# EAGLE library part CY62146G (library memory-cypress-jlb)
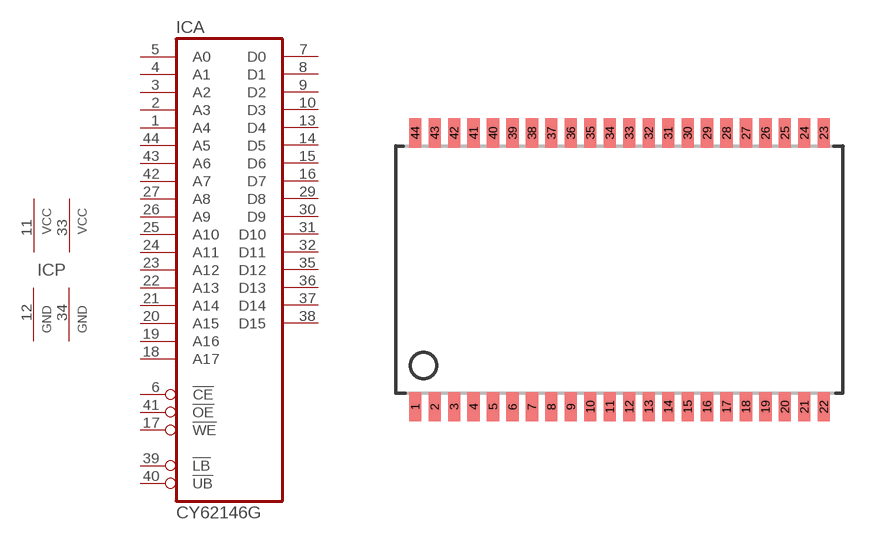
[diagram p2: symbol with the pads of TSOP44-II; footprint TSOP44-II]

Designator prefix IC; gates A=256KBX16 P=PWR2GND2

## CY62146GSL  [TSOP44-II]
1  A:A4  in
2  A:A3  in
3  A:A2  in
4  A:A1  in
5  A:A0  in
6  A:!CE  in
7  A:D0
8  A:D1
9  A:D2
10  A:D3
11  P:VCC  pwr
12  P:GND  pwr
13  A:D4
14  A:D5
15  A:D6
16  A:D7
17  A:!WE  in
18  A:A17  in
19  A:A16  in
20  A:A15  in
21  A:A14  in
22  A:A13  in
23  A:A12  in
24  A:A11  in
25  A:A10  in
26  A:A9  in
27  A:A8  in
29  A:D8
30  A:D9
31  A:D10
32  A:D11
33  P:VCC  pwr
34  P:GND  pwr
35  A:D12
36  A:D13
37  A:D14
38  A:D15
39  A:!LB  in
40  A:!UB  in
41  A:!OE  in
42  A:A7  in
43  A:A6  in
44  A:A5  in

## Footprint TSOP44-II (pad centres in mm)
smd 0.5 x 1.2: 1 -8.4,-5.627; 2 -7.6,-5.627; 3 -6.8,-5.627; 4 -6,-5.627; 5 -5.2,-5.627; 6 -4.4,-5.627; 7 -3.6,-5.627; 8 -2.8,-5.627; 9 -2,-5.627; 10 -1.2,-5.627; 11 -0.4,-5.627; 12 0.4,-5.627; 13 1.2,-5.627; 14 2,-5.627; 15 2.8,-5.627; 16 3.6,-5.627; 17 4.4,-5.627; 18 5.2,-5.627; 19 6,-5.627; 20 6.8,-5.627; 21 7.6,-5.627; 22 8.4,-5.627; 23 8.4,5.627; 24 7.6,5.627; 25 6.8,5.627; 26 6,5.627; 27 5.2,5.627; 28 4.4,5.627; 29 3.6,5.627; 30 2.8,5.627; 31 2,5.627; 32 1.2,5.627; 33 0.4,5.627; 34 -0.4,5.627; 35 -1.2,5.627; 36 -2,5.627; 37 -2.8,5.627; 38 -3.6,5.627; 39 -4.4,5.627; 40 -5.2,5.627; 41 -6,5.627; 42 -6.8,5.627; 43 -7.6,5.627; 44 -8.4,5.627